# EAGLE library part ADC:LTC1867(12/16-BIT,SER,OCTAL) (library QuantumOptics)
LTC1863/7 Linear Technology, octal 12- or 16-bit ADC, serial, uni/bipolar, SE/diff, http://www.linear.com/pc/downloadDocument.do?navId=H0,C1,C1155,C1001,C1158,P2497,D2141
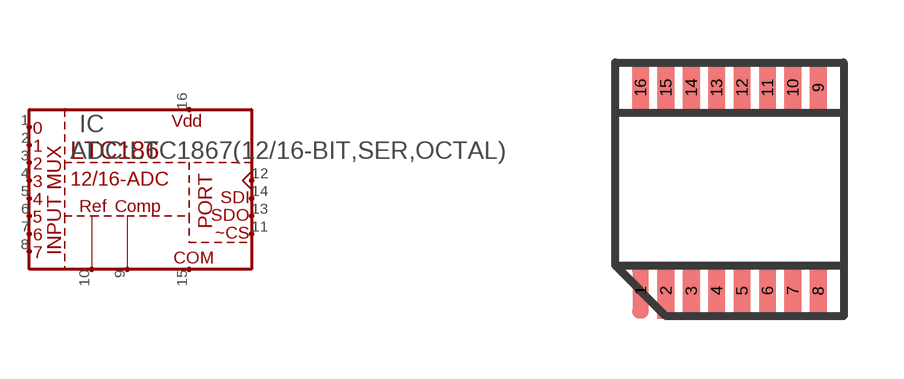
[diagram p54: symbol with the pads of SSOP-16; footprint SSOP-16]

Designator prefix IC

## ADC:LTC1867(12/16-BIT,SER,OCTAL)  [SSOP-16]
1  0
2  1
3  2
4  3
5  4
6  5
7  6
8  7
9  COMP
10  VREF
11  ~CS
12  CLK
13  SDO
14  SDI
15  COM
16  VDD

## Footprint SSOP-16 (pad centres in mm)
SSOP-16, 0.025" spacing, for body 0.155" wide, e.g. http://www.linear.com/pc/downloadDocument.do?navId=H0,C1,C1155,C1001,C1158,P2497,D2141
smd 0.419 x 1.397: 1 -1.905,-2.54; 2 -1.27,-2.54; 3 -0.635,-2.54; 4 0,-2.54; 5 0.635,-2.54; 6 1.27,-2.54; 7 1.905,-2.54; 8 2.54,-2.54; 9 2.54,2.54; 10 1.905,2.54; 11 1.27,2.54; 12 0.635,2.54; 13 0,2.54; 14 -0.635,2.54; 15 -1.27,2.54; 16 -1.905,2.54